# EAGLE library part FH12S-40S-0.5SH (library X893)
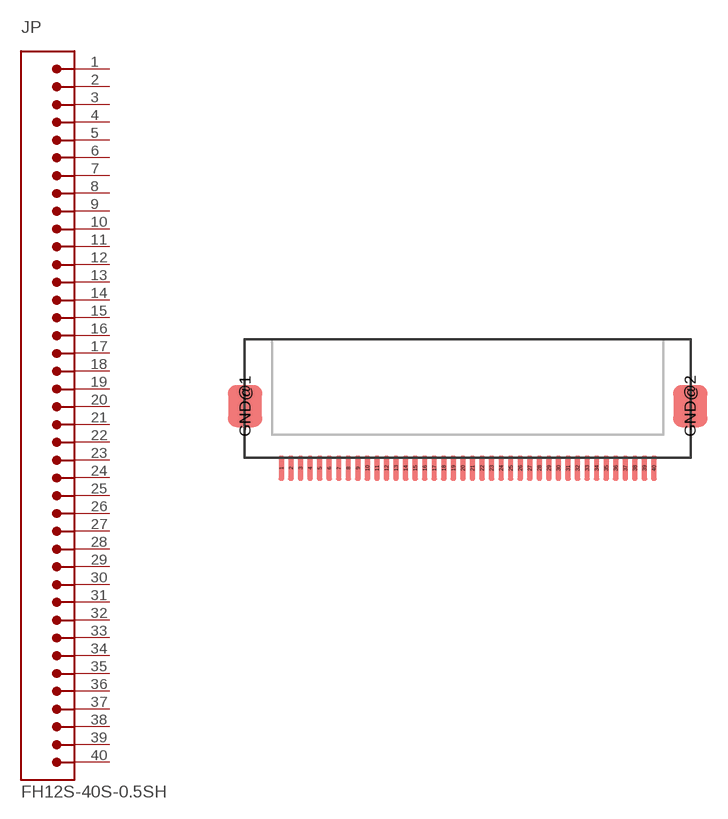
[diagram p116: symbol with the pads of FH12S-40S-0.5SH(55); footprint FH12S-40S-0.5SH(55)]

Designator prefix JP

## FH12S-40S-0.5SH  [FH12S-40S-0.5SH(55)]
1  1  pas
2  2  pas
3  3  pas
4  4  pas
5  5  pas
6  6  pas
7  7  pas
8  8  pas
9  9  pas
10  10  pas
11  11  pas
12  12  pas
13  13  pas
14  14  pas
15  15  pas
16  16  pas
17  17  pas
18  18  pas
19  19  pas
20  20  pas
21  21  pas
22  22  pas
23  23  pas
24  24  pas
25  25  pas
26  26  pas
27  27  pas
28  28  pas
29  29  pas
30  30  pas
31  31  pas
32  32  pas
33  33  pas
34  34  pas
35  35  pas
36  36  pas
37  37  pas
38  38  pas
39  39  pas
40  40  pas

## Footprint FH12S-40S-0.5SH(55) (pad centres in mm)
smd 0.3 x 1.3: 1 -9.75,-3.25; 2 -9.25,-3.25; 3 -8.75,-3.25; 4 -8.25,-3.25; 5 -7.75,-3.25; 6 -7.25,-3.25; 7 -6.75,-3.25; 8 -6.25,-3.25; 9 -5.75,-3.25; 10 -5.25,-3.25; 11 -4.75,-3.25; 12 -4.25,-3.25; 13 -3.75,-3.25; 14 -3.25,-3.25; 15 -2.75,-3.25; 16 -2.25,-3.25; 17 -1.75,-3.25; 18 -1.25,-3.25; 19 -0.75,-3.25; 20 -0.25,-3.25; 21 0.25,-3.25; 22 0.75,-3.25; 23 1.25,-3.25; 24 1.75,-3.25; 25 2.25,-3.25; 26 2.75,-3.25; 27 3.25,-3.25; 28 3.75,-3.25; 29 4.25,-3.25; 30 4.75,-3.25; 31 5.25,-3.25; 32 5.75,-3.25; 33 6.25,-3.25; 34 6.75,-3.25; 35 7.25,-3.25; 36 7.75,-3.25; 37 8.25,-3.25; 38 8.75,-3.25; 39 9.25,-3.25; 40 9.75,-3.25
smd 1.8 x 2.2: GND@1 -11.65,0; GND@2 11.65,0